# EAGLE library part ARDUPILOT_GPS_HEADER (library con-special_purpose)
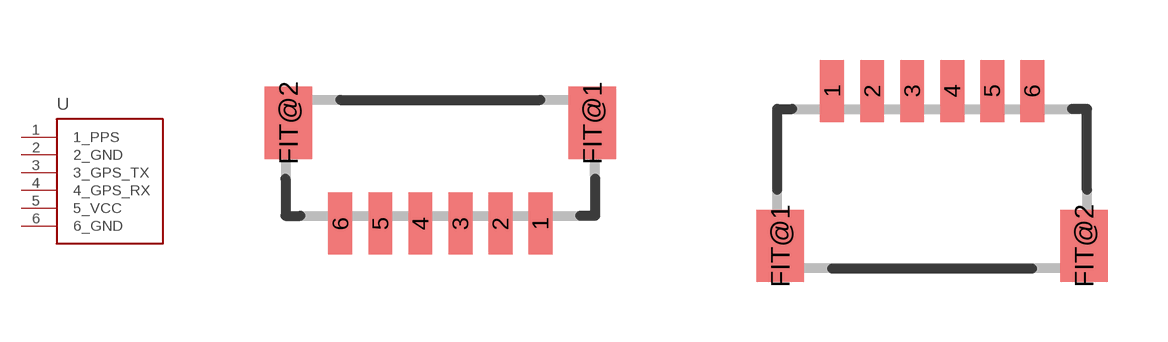
[diagram p19: symbol with the pads of CON-JST2_BM06B-SRSS-TB; footprints CON-JST2_BM06B-SRSS-TB, CON-JST2_SM06B-SRSS-TB]

Designator prefix -

## ARDUPILOT_GPS_HEADERTOP (PLACE_PART: YES)  [CON-JST2_BM06B-SRSS-TB]
1  1_PPS
2  2_GND
3  3_GPS_TX
4  4_GPS_RX
5  5_VCC
6  6_GND

## ARDUPILOT_GPS_HEADERSIDE (PLACE_PART: YES)  [CON-JST2_SM06B-SRSS-TB]
Pads as for CON-JST2_BM06B-SRSS-TB

## Footprint CON-JST2_BM06B-SRSS-TB (pad centres in mm)
Shrouded Header, top entry type
smd 0.6 x 1.55: 1 2.5,-1.625; 2 1.5,-1.625; 3 0.5,-1.625; 4 -0.5,-1.625; 5 -1.5,-1.625; 6 -2.5,-1.625
smd 1.2 x 1.8: FIT@1 3.8,0.9; FIT@2 -3.8,0.9

## Footprint CON-JST2_SM06B-SRSS-TB (pad centres in mm)
Shrouded Header, side entry type
smd 0.6 x 1.55: 1 -2.5,2.975; 2 -1.5,2.975; 3 -0.5,2.975; 4 0.5,2.975; 5 1.5,2.975; 6 2.5,2.975
smd 1.2 x 1.8: FIT@1 -3.8,-0.9; FIT@2 3.8,-0.9